# EAGLE library part К161ПР2 (library CasaLibrary)
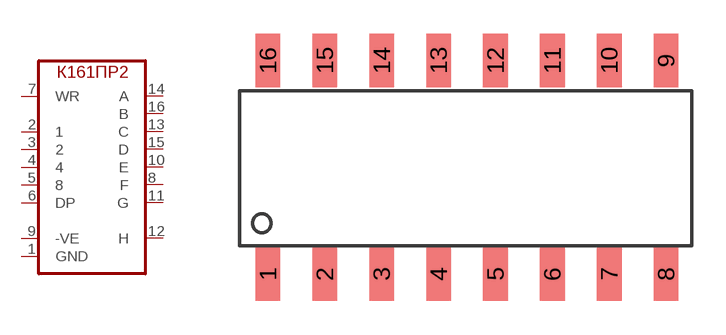
[diagram p20: symbol with the pads of SMDDIP16; footprint SMDDIP16]

Designator prefix -

## К161ПР2  [SMDDIP16]
1  GND  sup
2  1  in
3  2  in
4  4  in
5  8  in
6  DP  in
7  WR  in
8  F  out
9  -VE  sup
10  E  out
11  G  out
12  H  out
13  C  out
14  A  out
15  D  out
16  B  out

## Footprint SMDDIP16 (pad centres in mm)
smd 1.1 x 2.4: 1 1.27,-1.27; 2 3.81,-1.27; 3 6.35,-1.27; 4 8.89,-1.27; 5 11.43,-1.27; 6 13.97,-1.27; 7 16.51,-1.27; 8 19.05,-1.27; 9 19.05,8.255; 10 16.51,8.255; 11 13.97,8.255; 12 11.43,8.255; 13 8.89,8.255; 14 6.35,8.255; 15 3.81,8.255; 16 1.27,8.255